# EAGLE library part PAD_10_SLOT_1 (library stepOSP)
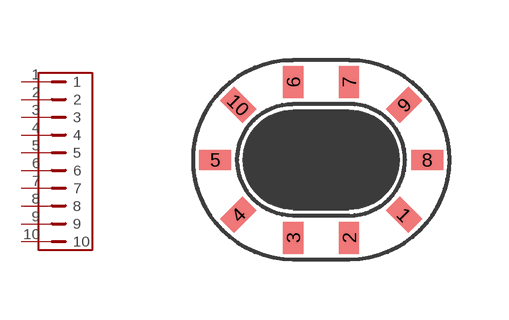
[diagram p14: symbol with the pads of PAD_SLOT_10; footprint PAD_SLOT_10]

Designator prefix -

## PAD_10_SLOT_1  [PAD_SLOT_10]
1  1
2  2
3  3
4  4
5  5
6  6
7  7
8  8
9  9
10  10

## Footprint PAD_SLOT_10 (pad centres in mm)
smd 0.8 x 0.5 rotated 135: 1 1.375,-1.375; 10 -2.775,1.375
smd 0.5 x 0.8: 2 0,-1.95; 3 -1.4,-1.95; 6 -1.4,1.95; 7 0,1.95
smd 0.8 x 0.5 rotated 45: 4 -2.775,-1.375; 9 1.375,1.375
smd 0.8 x 0.5: 5 -3.35,0; 8 1.95,0